# Altium footprint library QFN-6_3x3x095P.PcbLib: 1 footprints
Each footprint in its own frame and in the unit in brackets; x right, y up, seen from the top. Pads: shape width x height; smd on the part's side, far side on the other; paste and mask are expansions set on the pad; w line width, h text height; cw(c..) or ccw(c..) is an arc to the next point about the centre after c.
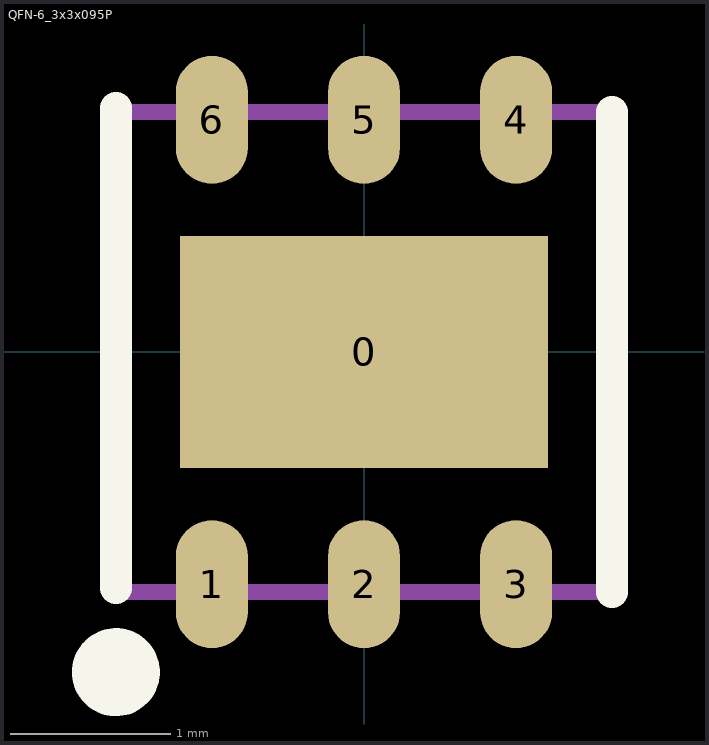
[diagram p0: the footprint, top view; thin cyan lines are the x and y axes]

## QFN-6_3x3x095P [mm]
pads (7):
  rect 2.3x1.45 smd: 0(0,0)
  oval 0.45x0.8 smd: 1(-0.95,-1.45) 2(0,-1.45) 3(0.95,-1.45) 4(0.95,1.45) 5(0,1.45) 6(-0.95,1.45)
Top Overlay:
  circle w0.3: c-1.55,-2 r0.125
  lines w0.2: -1.55,-1.475 -1.55,1.525 ; 1.55,-1.5 1.55,1.5
Mechanical 13:
  lines w0.1: -1.5,-1.5 -1.5,1.5 1.5,1.5 1.5,-1.5 -1.5,-1.5